# Altium schematic symbol library LORA_ANTENNA.Schlib: 1 symbol
Pins are listed as number, name and electrical type; pins without a type are passive.

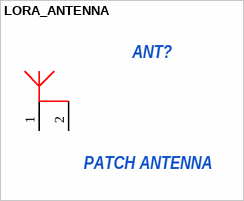
[diagram p0: symbol LORA_ANTENNA]

## LORA_ANTENNA
designator ANT?, comment PATCH ANTENNA  (no BOM)
ManufacturerPartNumber: FC1-5211; manufacturer: *; Power/Voltage: *; Rem: *; TKE: *; Tolerance: *; Type: *; Value: *; Корпус: *; Примечание: *
pins: 1, 2